# Altium schematic symbol library diod_triod.SchLib: 70 symbols
Pins are listed as number, name and electrical type; pins without a type are passive.

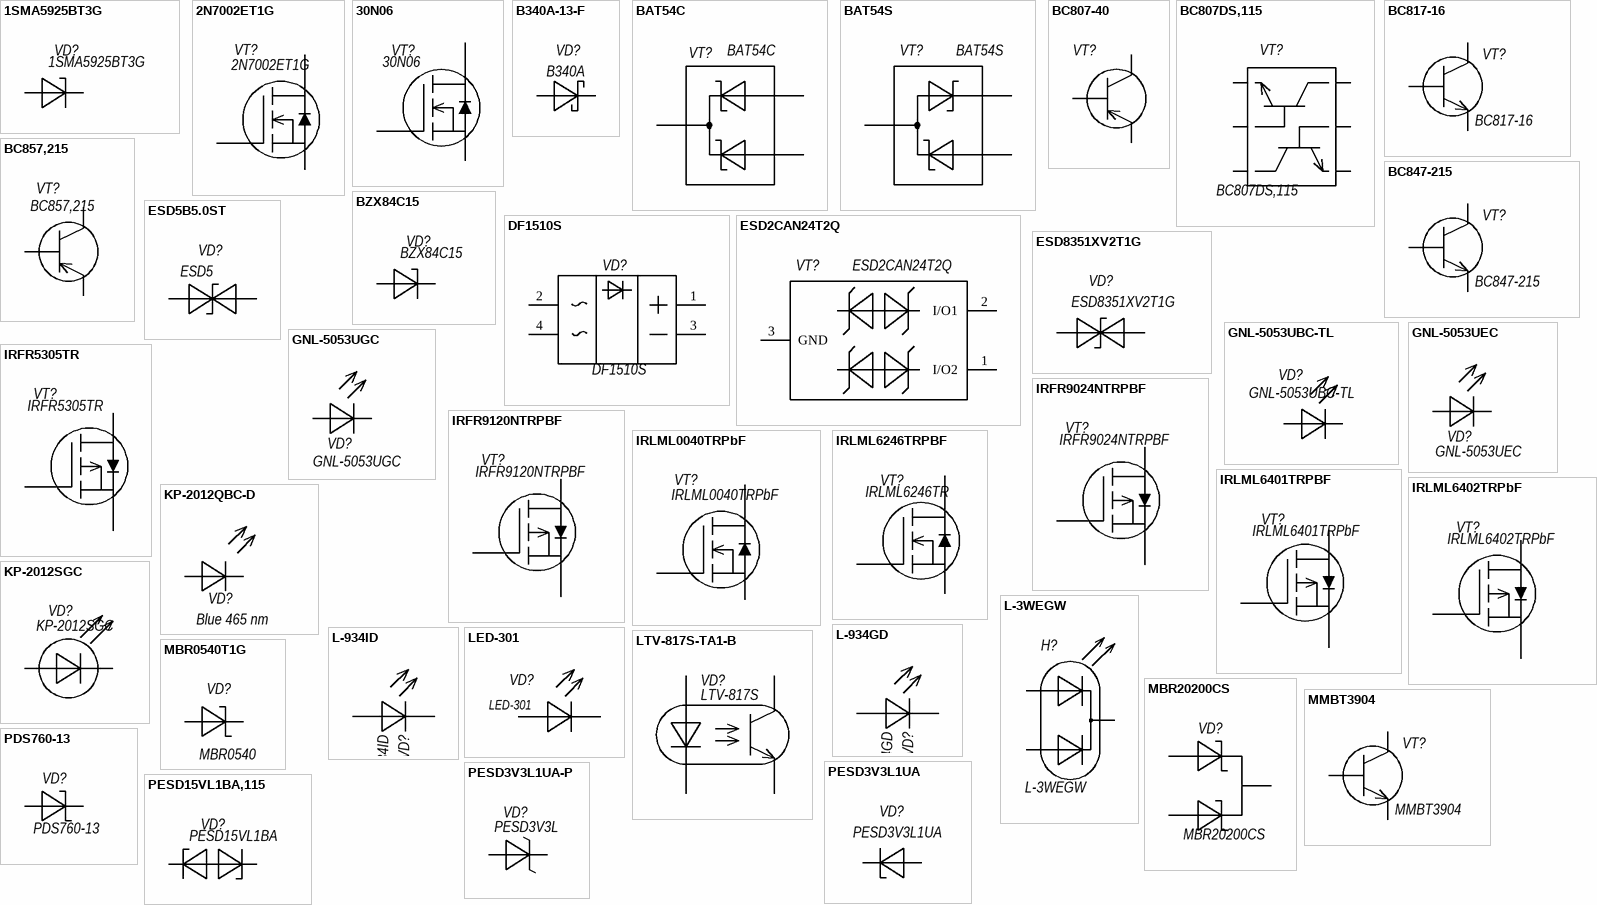
[diagram p0: symbols 1SMA5925BT3G to PESD15VL1BA,115]

## 1SMA5925BT3G
designator VD?
Zener Voltage Regulators 1SMA5925BT3G, 1.5W, 10V, [SMA]; Manufacturer: ON Semiconductor; BOM1: SMA 1SMA5925BT3G; ValueBOM: 1SMA5925BT3G   ON Semiconductor; Part Number: 1SMA5925BT3G; Package: SMA; Value: 1SMA5925BT3G; BOM2: SMA 1SMA5925BT3G
footprint DO214AC SMA (Molded Diode, 2-Leads, Body 4.30x2.60mm, IPC Medium Density)
pins: 1 А "Анод", 2 К "Катод"

## 2N7002ET1G
designator VT?
2N7002ET1G MOSFET N-CH 60V 0,3A SOT-23; Manufacturer: Hottech; BOM1: SOT-23 2N7002ET1G; ValueBOM: 2N7002ET1G   Hottech; Part Number: 2N7002ET1G; Package: SOT-23; BOM2: SOT-23 2N7002ET1G; Value: 2N7002ET1G
footprint SOT23-3L (SOT23, 3-Leads, Body 2.9x1.3mm, Pitch 0.95mm, Lead Span 2.5mm, IPC High Density)
footprint SOT23-3N (SOT23, 3-Leads, Body 2.9x1.3mm, Pitch 0.95mm, Lead Span 2.5mm, IPC Medium Density)
footprint SOT23-3M (SOT23, 3-Leads, Body 2.9x1.3mm, Pitch 0.95mm, Lead Span 2.5mm, IPC Low Density)
pins: 1 G, 2 D, 3 S

## 30N06
designator VT?
60V, 30A N-Channel Enhancement ModePowerMOSFET; Manufacturer: UMW; BOM1: DPAK (TO-252) 30N06; ValueBOM: 30N06   UMW; Part Number: 30N06; Package: DPAK (TO-252); BOM2: DPAK (TO-252) 30N06; Value: 30N06
footprint TO-252-3_TRIOD
pins: 1 G, 2 D, 3 S

## B340A-13-F
designator VD?, comment B340A
SMA-SCH-3A-40V; Part Number: B340A-13-F; Manufacturer: Diodes Incorparated; Reverse Voltage: 40V; Forward Current: 3000mA; Value: B340A; Package: SMA; Temperature Range: -55…+150°C
footprint STD_SMA
pins: A, C

## BAT54C
designator VT?
BAT54C SOT-23 Schottky barrier diodes 0.2A, 30V; Manufacturer: UMW; BOM1: SOT-23 BAT54C; ValueBOM: BAT54C   UMW; Part Number: BAT54C; Package: SOT-23; BOM2: SOT-23 BAT54C; Value: BAT54C
footprint SOT23-3L (SOT23, 3-Leads, Body 2.9x1.3mm, Pitch 0.95mm, Lead Span 2.5mm, IPC High Density)
footprint SOT23-3N (SOT23, 3-Leads, Body 2.9x1.3mm, Pitch 0.95mm, Lead Span 2.5mm, IPC Medium Density)
footprint SOT23-3M (SOT23, 3-Leads, Body 2.9x1.3mm, Pitch 0.95mm, Lead Span 2.5mm, IPC Low Density)
pins: 1, 2, 3

## BAT54S
designator VT?
BAT54S SOT-23 Schottky barrier diodes 0.2A, 30V; Manufacturer: UMW; BOM1: SOT-23 BAT54S; ValueBOM: BAT54S   UMW; Part Number: BAT54S; Package: SOT-23; BOM2: SOT-23 BAT54S; Value: BAT54S
footprint SOT23-3L (SOT23, 3-Leads, Body 2.9x1.3mm, Pitch 0.95mm, Lead Span 2.5mm, IPC High Density)
footprint SOT23-3N (SOT23, 3-Leads, Body 2.9x1.3mm, Pitch 0.95mm, Lead Span 2.5mm, IPC Medium Density)
footprint SOT23-3M (SOT23, 3-Leads, Body 2.9x1.3mm, Pitch 0.95mm, Lead Span 2.5mm, IPC Low Density)
pins: 1, 2, 3

## BC807-40
designator VT?  (value not drawn)
45 V, 500 mA PNP general-purpose transistors; Vendor Code: *
footprint SOT23-3L (SOT23, 3-Leads, Body 2.9x1.3mm, Pitch 0.95mm, Lead Span 2.5mm, IPC High Density)
footprint SOT23-3M (SOT23, 3-Leads, Body 2.9x1.3mm, Pitch 0.95mm, Lead Span 2.5mm, IPC Low Density)
footprint SOT23-3N (SOT23, 3-Leads, Body 2.9x1.3mm, Pitch 0.95mm, Lead Span 2.5mm, IPC Medium Density)
pins: 1 B "Анод излучающего диода", 2 E "Эмиттер транзистора (n-p-n)", 3 К "Коллектор транзистора"
1 alternate drawing of the same symbol

## BC807DS,115
designator VT?
PNP/PNP general purpose double transistors; Manufacturer: Hottech; BOM1: 6TSOP BC817-16; ValueBOM: BC807DS,115   Hottech; Part Number: BC807DS,115; Package: 6TSOP; BOM2: 6TSOP BC817-16; Value: BC807DS,115
footprint TSOP6(SOT457)
pins: 1 E1 "Эмиттер транзистора (n-p-n)", 2 B1 "Анод излучающего диода", 3 C2 "Анод излучающего диода", 4 E2 "Эмиттер транзистора (n-p-n)", 5 B2 "Анод излучающего диода", 6 C1 "Анод излучающего диода"

## BC817-16
designator VT?
NPN; U=45 V; I=0,5 A; SOT-23; -55С..+150С; Manufacturer: Hottech; BOM1: SOT-23 BC817-16; ValueBOM: BC817-16   Hottech; Part Number: BC817-16; Package: SOT-23; BOM2: SOT-23 BC817-16; Value: BC817-16
footprint SOT23-3L (SOT23, 3-Leads, Body 2.9x1.3mm, Pitch 0.95mm, Lead Span 2.5mm, IPC High Density)
footprint SOT23-3N (SOT23, 3-Leads, Body 2.9x1.3mm, Pitch 0.95mm, Lead Span 2.5mm, IPC Medium Density)
footprint SOT23-3M (SOT23, 3-Leads, Body 2.9x1.3mm, Pitch 0.95mm, Lead Span 2.5mm, IPC Low Density)
pins: 1 B "Анод излучающего диода", 2 E "Эмиттер транзистора (n-p-n)", 3 К "Коллектор транзистора"

## BC847-215
designator VT?
BC847-215 NPN; U=45 V; I=0,1 A; SOT-23; -55С..+150С; Manufacturer: Nexperia; BOM1: SOT-23 BC847-215; ValueBOM: BC847-215   Nexperia; Part Number: BC847-215; Package: SOT-23; BOM2: SOT-23 BC847-215; Value: BC847-215
footprint SOT23-3L (SOT23, 3-Leads, Body 2.9x1.3mm, Pitch 0.95mm, Lead Span 2.5mm, IPC High Density)
footprint SOT23-3N (SOT23, 3-Leads, Body 2.9x1.3mm, Pitch 0.95mm, Lead Span 2.5mm, IPC Medium Density)
footprint SOT23-3M (SOT23, 3-Leads, Body 2.9x1.3mm, Pitch 0.95mm, Lead Span 2.5mm, IPC Low Density)
pins: 1 B "Анод излучающего диода", 2 E "Эмиттер транзистора (n-p-n)", 3 К "Коллектор транзистора"

## BC857,215
designator VT?
BC857,215 SOT-23, PNP 45V 0.1A 0.25W; Manufacturer: NXP; BOM1: SOT-23 BC857,215; ValueBOM: BC857,215   NXP; Part Number: BC857,215; Package: SOT-23; BOM2: SOT-23 BC857,215; Value: BC857,215
footprint SOT23-3L (SOT23, 3-Leads, Body 2.9x1.3mm, Pitch 0.95mm, Lead Span 2.5mm, IPC High Density)
footprint SOT23-3N (SOT23, 3-Leads, Body 2.9x1.3mm, Pitch 0.95mm, Lead Span 2.5mm, IPC Medium Density)
footprint SOT23-3M (SOT23, 3-Leads, Body 2.9x1.3mm, Pitch 0.95mm, Lead Span 2.5mm, IPC Low Density)
pins: 1 B "Анод излучающего диода", 2 E "Эмиттер транзистора (n-p-n)", 3 К "Коллектор транзистора"

## BZX84C15
designator VD?
Zener Voltage Regulators BZX84C15, 0.35W, 15V, ±5 [SOT-23-3.]; Manufacturer: Hottech Co. Ltd; BOM1: SOT-23 BZX84C15; ValueBOM: BZX84C15   Hottech Co. Ltd; Part Number: BZX84C15; Package: SOT-23; Value: BZX84C15; BOM2: SOT-23 BZX84C15
footprint SOT23-3L (SOT23, 3-Leads, Body 2.9x1.3mm, Pitch 0.95mm, Lead Span 2.5mm, IPC High Density)
footprint SOT23-3M (SOT23, 3-Leads, Body 2.9x1.3mm, Pitch 0.95mm, Lead Span 2.5mm, IPC Low Density)
footprint SOT23-3N (SOT23, 3-Leads, Body 2.9x1.3mm, Pitch 0.95mm, Lead Span 2.5mm, IPC Medium Density)
pins: 1 А "Анод", 3 К "Катод"

## DF1510S
designator VD?
Диодный мост DF1510S ; U=1000 В; I=1 А; DF-S; -60С..+150С; Manufacturer: Diodes Incorporated; ValueBOM: DF1510S   Diodes Incorporated; Part Number: DF1510S; Package: DF-S; BOM1: DF1510S; BOM2: DF1510S; Value: DF1510S
footprint DB-1S(DF-S)
pins: 1, 2, 3, 4

## ESD2CAN24T2Q
designator VT?
24-V, 2-Channel ESD Protection Diode; Manufacturer: Yangjie; BOM1: SOT-23 ESD2CAN24T2Q; ValueBOM: ESD2CAN24T2Q   Yangjie; Part Number: ESD2CAN24T2Q; Package: SOT-23; BOM2: SOT-23 ESD2CAN24T2Q; Value: ESD2CAN24T2Q
footprint SOT23-3L (SOT23, 3-Leads, Body 2.9x1.3mm, Pitch 0.95mm, Lead Span 2.5mm, IPC High Density)
footprint SOT23-3N (SOT23, 3-Leads, Body 2.9x1.3mm, Pitch 0.95mm, Lead Span 2.5mm, IPC Medium Density)
footprint SOT23-3M (SOT23, 3-Leads, Body 2.9x1.3mm, Pitch 0.95mm, Lead Span 2.5mm, IPC Low Density)
pins: 1 I/O2 "Выход", 2 I/O1 "Вход инверсный", 3 GND

## ESD5B5.0ST
designator VD?, comment ESD5
ESD2-SOD523-5.0V; Part Number: ESD5B5.0ST; Manufacturer: ONS; Working Voltage: 5.0V; Breakdown Voltage: 5.8; Polarity: Bidirectional; Value: ESD5; Package: SOD-523; Temperature Range: -55…+150°C; Capacitance: -
footprint STD_SOD523
pins: A, C

## ESD8351XV2T1G
designator VD?
ESD8351XV2T1G-SOD523-3.3V; Manufacturer: ONS; Working Voltage: 3.3V; Breakdown Voltage: 5.5; Polarity: Bidirectional; Part Number: ESD8351XV2T1G; Value: ESD8351XV2T1G; Package: SOD-523; Temperature Range: -55…+125°C; Capacitance: -
footprint STD_SOD523
pins: A, C

## GNL-5053UBC-TL
designator VD?
GNL-5053UBC-TL   ( 5mm ROUND TYPE) Ultra Brightness BLUE; Manufacturer: G-nor; Reverse Voltage: 5V; Forward Current: 30 mA; Part Number: GNL-5053UBC-TL; Value: GNL-5053UBC-TL; Package: 5 mm; Temperature Range: -40…+85°C
footprint LED 5MM HOR BLUE (LED Diode, 2-Leads, Body 5 mm)
footprint LED 5mm BLUE SMALL
pins: 1, 2

## GNL-5053UEC
designator VD?
GNL-5053UEC   ( 5mm ROUND TYPE) Ultra Brightness RED; Manufacturer: G-nor; Reverse Voltage: 5V; Forward Current: 30 mA; Part Number: GNL-5053UEC; Value: GNL-5053UEC; Package: 5 mm; Temperature Range: -40…+85°C
footprint LED 5mm RED
footprint LED 5MM HOR RED (LED Diode, 2-Leads, Body 5 mm)
pins: 1, 2

## GNL-5053UGC
designator VD?
GNL-5053UGS   ( 5mm ROUND TYPE) Ultra Brightness GREEN; Manufacturer: G-nor; Reverse Voltage: 5V; Forward Current: 30 mA; Part Number: GNL-5053UGC; Value: GNL-5053UGC; Package: 5 mm; Temperature Range: -40…+85°C
footprint LED 5mm GREEN
footprint LED 5MM HOR GREEN (LED Diode, 2-Leads, Body 5 mm)
footprint LED 5mm GREEN SMALL
pins: 1, 2

## IRFR5305TR
designator VT?
IRFR5305TR MOSFET P-CH 60V 30A 3-Pin(2+Tab) DPAK T/R; Manufacturer: UMW; BOM1: DPAK (TO-252) IRFR5305TR; ValueBOM: IRFR5305TR   UMW; Part Number: IRFR5305TR; Package: DPAK (TO-252); BOM2: DPAK (TO-252) IRFR5305TR; Value: IRFR5305TR
footprint TO-252-3_TRIOD
pins: 1 G, 2 D, 3 S

## IRFR9024NTRPBF
designator VT?
IRFR9024NTRPBF MOSFET P-CH 55V 11A 3-Pin(2+Tab) DPAK T/R; Manufacturer: Infineon Technologies; BOM1: DPAK (TO-252) IRFR9024NTRPBF; ValueBOM: IRFR9024NTRPBF   Infineon Technologies; Part Number: IRFR9024NTRPBF; Package: DPAK (TO-252); BOM2: DPAK (TO-252) IRFR9024NTRPBF; Value: IRFR9024NTRPBF
footprint TO-252-3_TRIOD
pins: 1 G, 2 D, 3 S

## IRFR9120NTRPBF
designator VT?
IRFR9120NTRPBF MOSFET P-CH 100V 6.6A 3-Pin(2+Tab) DPAK T/R; Manufacturer: Infineon Technologies; BOM1: DPAK (TO-252) IRFR9120NTRPBF; ValueBOM: IRFR9120NTRPBF   Infineon Technologies; Part Number: IRFR9120NTRPBF; Package: DPAK (TO-252); BOM2: DPAK (TO-252) IRFR9120NTRPBF; Value: IRFR9120NTRPBF
footprint TO-252-3_TRIOD
pins: 1 G, 2 D, 3 S

## IRLML0040TRPbF
designator VT?
IRLML0040TRPbF MOSFET N-CH 40V 3,6A SOT-23; Manufacturer: Hottech; BOM1: SOT-23 IRLML0040TRPbF; ValueBOM: IRLML0040TRPbF   Hottech; Part Number: IRLML0040TRPbF; Package: SOT-23; BOM2: SOT-23 IRLML0040TRPbF; Value: IRLML0040TRPbF
footprint SOT23-3L (SOT23, 3-Leads, Body 2.9x1.3mm, Pitch 0.95mm, Lead Span 2.5mm, IPC High Density)
footprint SOT23-3N (SOT23, 3-Leads, Body 2.9x1.3mm, Pitch 0.95mm, Lead Span 2.5mm, IPC Medium Density)
footprint SOT23-3M (SOT23, 3-Leads, Body 2.9x1.3mm, Pitch 0.95mm, Lead Span 2.5mm, IPC Low Density)
pins: 1 G, 2 D, 3 S

## IRLML6246TRPBF
designator VT?, comment IRLML6246TR
Транзистор MOSFET N-channel; U=20 В; R=0,066 Ом; I=4,1 А; SOT-23; -55С..+150С; Part Number: IRLML6246TRPBF; Manufacturer: Infineon Technologies; BOM1: SOT-23 IRLML6246TRPBF; ValueBOM: IRLML6246TRPBF   Infineon Technologies; Package: SOT-23; BOM2: SOT-23 IRLML6246TRPBF; Value: IRLML6246TR
footprint SOT23-3L (SOT23, 3-Leads, Body 2.9x1.3mm, Pitch 0.95mm, Lead Span 2.5mm, IPC High Density)
footprint SOT23-3M (SOT23, 3-Leads, Body 2.9x1.3mm, Pitch 0.95mm, Lead Span 2.5mm, IPC Low Density)
footprint SOT23-3N (SOT23, 3-Leads, Body 2.9x1.3mm, Pitch 0.95mm, Lead Span 2.5mm, IPC Medium Density)
pins: 1 G, 2 S, 3 D

## IRLML6401TRPBF
designator VT?, comment IRLML6401TRPbF
IRLML6401TRPbF MOSFET P-CH 12V 3.4A SOT-23, 1.3W; Manufacturer: Infineon; BOM1: SOT-23 IRLML6401TRPbF; ValueBOM: IRLML6401TRPbF   Infineon; Part Number: IRLML6401TRPbF; Package: SOT-23; BOM2: SOT-23 IRLML6401TRPbF; Value: IRLML6401TRPbF
footprint SOT23-3L (SOT23, 3-Leads, Body 2.9x1.3mm, Pitch 0.95mm, Lead Span 2.5mm, IPC High Density)
footprint SOT23-3N (SOT23, 3-Leads, Body 2.9x1.3mm, Pitch 0.95mm, Lead Span 2.5mm, IPC Medium Density)
footprint SOT23-3M (SOT23, 3-Leads, Body 2.9x1.3mm, Pitch 0.95mm, Lead Span 2.5mm, IPC Low Density)
pins: 1 G, 2 S, 3 D

## IRLML6402TRPbF
designator VT?
IRLML6402TRPbF MOSFET P-CH 20V 3.7A SOT-23, 1.3W; Manufacturer: Infineon; BOM1: SOT-23 IRLML6402TRPbF; ValueBOM: IRLML6402TRPbF   Infineon; Part Number: IRLML6402TRPbF; Package: SOT-23; BOM2: SOT-23 IRLML6402TRPbF; Value: IRLML6402TRPbF
footprint SOT23-3L (SOT23, 3-Leads, Body 2.9x1.3mm, Pitch 0.95mm, Lead Span 2.5mm, IPC High Density)
footprint SOT23-3N (SOT23, 3-Leads, Body 2.9x1.3mm, Pitch 0.95mm, Lead Span 2.5mm, IPC Medium Density)
footprint SOT23-3M (SOT23, 3-Leads, Body 2.9x1.3mm, Pitch 0.95mm, Lead Span 2.5mm, IPC Low Density)
pins: 1 G, 2 S, 3 D

## KP-2012QBC-D
designator VD?, comment Blue 465 nm
SMD, blue 465 nm, water clear, 40 - 100 mcd, 20 mA, 120°; Part Number: KP-2012QBC-D; Manufacturer: Kingbright Electronic Co, Ltd; Voltage: 3.3V; Current: 20 mA; Value: Blue 465 nm; Package: 0805; Temperature Range: -50…+125 °C
footprint LEDC_0805_2012N_Blue (Chip LED Blue, Body 2x1.25x1.1mm, IPC Medium Density)
pins: 1 А "Анод", 2 К "Катод"

## KP-2012SGC
designator VD?
LED KP-2012SGC SMD 0805, green 568 nm, water clear, 4-15 mcd,  20 mA, 120°; Manufacturer: Kingbright Electronic Co, Ltd; BOM1: 0805 KP-2012SGC; ValueBOM: KP-2012SGC   Kingbright Electronic Co, Ltd; Part Number: KP-2012SGC; Package: 0805; Value: KP-2012SGC; BOM2: 0805 KP-2012SGC
footprint LEDC_0805_2012N_Green (Chip LED Green, Body 2x1.25x1.1mm, IPC Medium Density)
pins: 1, 2

## L-3WEGW
designator H?
3mm round through-hole led/red 625nm 12-40mcd/green 568nm 12-35mcd/white diffused/60°; Manufacturer: Kingbright Electronic Co, Ltd; BOM1: 3mm L-3WEGW; ValueBOM: L-3WEGW   Kingbright Electronic Co, Ltd; Part Number: L-3WEGW; Package: 3mm; Value: L-3WEGW; BOM2: 3mm L-3WEGW
footprint LED 3MM RED GREEN (3mm Red / Green Common Cathode LED)
pins: 1, 2, 3

## L-934GD
designator VD?
L-934GD 3mm round led green 568nm 8-20mcd 60°; Manufacturer: Kingbright; Reverse Voltage: 5V; Forward Current: 5 mA; Part Number: L-934GD; Value: L-934GD; Package: 3 mm; Temperature Range: -40…+85°C
footprint LED 3mm GREEN
footprint LED 3mm GREEN h=8 mm
pins: 1, 2

## L-934ID
designator VD?
L-934ID 3mm round led red 625nm 8-25mcd 60°; Manufacturer: Kingbright; Reverse Voltage: 5V; Forward Current: 5 mA; Part Number: L-934ID; Value: L-934ID; Package: 3 mm; Temperature Range: -40…+85°C
footprint LED 3mm RED
footprint LED 3mm RED h=8 mm
pins: 1, 2

## LED-301
designator VD?
Угловой держатель светодиодов на плату; Manufacturer: TECH PUBLIC; ValueBOM: LED-301   TECH PUBLIC; Part Number: LED-301; Value: LED-301; Package: LED-301; BOM1: LED-301; BOM2: LED-301
footprint LED-301
pins: 1, 2

## LTV-817S-TA1-B
designator VD?, comment LTV-817S
Photocoupler LTV-8x7 Series Current transfer ratio ( CTR : MIN. 50% at IF = 5mA, VCE = 5V ) High input-output isolation voltage ( Viso = 5,000Vrms ); Part Number: LTV-817S-TA1-B; Manufacturer: SLKORMICRO Elec.; BOM1: SMD-4 LTV-817S-TA1-B; ValueBOM: LTV-817S-TA1-B   SLKORMICRO Elec.; Package: SMD-4; BOM2: SMD-4 LTV-817S-TA1-B; Value: LTV-817S
footprint SOP254P960X420-4N
pins: 1 CА "Анод излучающего диода", 2 CК "Катод излучающего диода", 3 Э "Эмиттер транзистора (n-p-n)", 4 К "Коллектор транзистора"

## MBR0540T1G
designator VD?, comment MBR0540
SOD123-SCH-0.5A-40V; Part Number: MBR0540T1G; Manufacturer: ON Semiconductor; Value: MBR0540; Package: SOD-123; BOM2: MBR0540T1G; BOM1: MBR0540T1G
footprint SOD123
pins: 1, 2

## MBR20200CS
designator VD?
MBR20200CS, High voltage power Schottky rectifier, 200 V, 20 А; Manufacturer: YFW; BOM1: DPAK MBR20200CS; ValueBOM: MBR20200CS   YFW; Part Number: MBR20200CS; Package: DPAK; BOM2: DPAK MBR20200CS; Value: MBR20200CS
footprint TO-252-3_TRIOD
pins: 1, 2, 3

## MMBT3904
designator VT?
MMBT3904 NPN U=40 V I=0,2 A SOT-23; Manufacturer: Diotec Semiconductor; BOM1: SOT-23 MMBT3904; ValueBOM: MMBT3904   Diotec Semiconductor; Part Number: MMBT3904; Package: SOT-23; BOM2: SOT-23 MMBT3904; Value: MMBT3904
footprint SOT23-3L (SOT23, 3-Leads, Body 2.9x1.3mm, Pitch 0.95mm, Lead Span 2.5mm, IPC High Density)
footprint SOT23-3N (SOT23, 3-Leads, Body 2.9x1.3mm, Pitch 0.95mm, Lead Span 2.5mm, IPC Medium Density)
footprint SOT23-3M (SOT23, 3-Leads, Body 2.9x1.3mm, Pitch 0.95mm, Lead Span 2.5mm, IPC Low Density)
pins: 1 B "Анод излучающего диода", 2 E "Эмиттер транзистора (n-p-n)", 3 К "Коллектор транзистора"

## PDS760-13
designator VD?
PDS760-13 60V 7A, Schottky Rectifier & Schottky Diode; Manufacturer: Diodes; BOM1: PowerDI PDS760-13; ValueBOM: PDS760-13   Diodes; Part Number: PDS760-13; Package: PowerDI; BOM2: PowerDI PDS760-13; Value: PDS760-13
footprint POWERDI5
pins: 1, 2, 3

## PESD3V3L1UA
designator VD?
PESD3V3L1UA, Low capacitance unidirectional ESD protection up to 30 kV; Manufacturer: NXP Semiconductors; Reverse Voltage: 3.3V; Forward Current: 4500mA; Part Number: PESD3V3L1UA; Value: PESD3V3L1UA; Package: SOD323; Temperature Range: -55…+150°C
footprint SOD323
pins: 1, 2

## PESD3V3L1UA-P
designator VD?, comment PESD3V3L
PESD3V3L1UA-P, Protective diode, 3V3, 20A, 300W, unidirectional, SOD323; Manufacturer: TECH PUBLIC; BOM1: SOD-323 PESD3V3L1UA-P; ValueBOM: PESD3V3L1UA-P   TECH PUBLIC; Part Number: PESD3V3L1UA-P; Package: SOD-323; Value: PESD3V3L; BOM2: SOD-323 PESD3V3L1UA-P
footprint SOD323
pins: 1 А "Анод", 2 К "Катод"

## PESD15VL1BA,115
designator VD?, comment PESD15VL1BA
PESDxL1BA series Low capacitance bidirectional ESD protection diodes in SOD323; Part Number: PESD15VL1BA,115; Manufacturer: Nexperia; BOM1: SOD323 PESD15VL1BA,115; ValueBOM: PESD15VL1BA,115   Nexperia; Package: SOD323; BOM2: SOD323 PESD15VL1BA,115; Value: PESD15VL1BA
footprint SOD323
pins: 1, 2

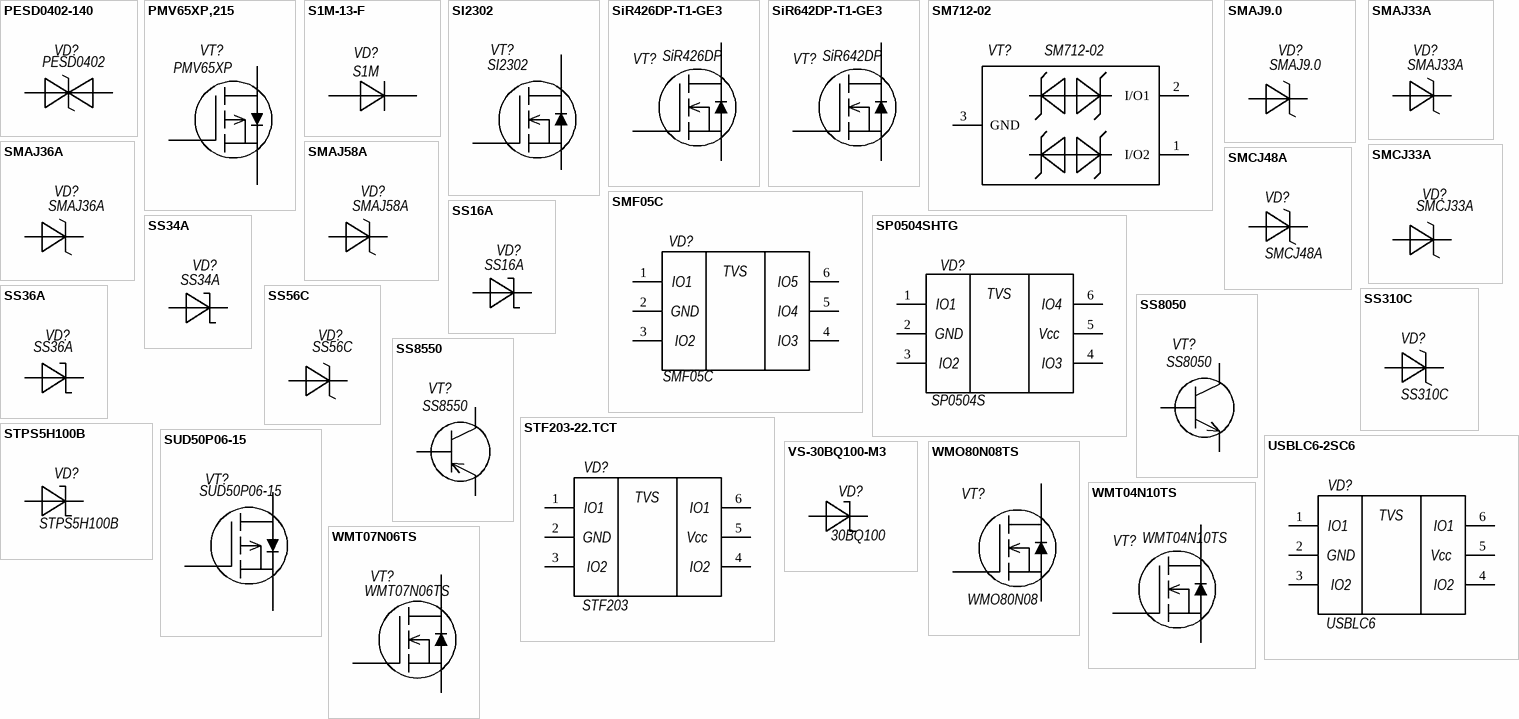
[diagram p1: symbols PESD0402-140 to WMT07N06TS]

## PESD0402-140
designator VD?, comment PESD0402
TVS Diode (Bi-directional); Part Number: PESD0402-140; Manufacturer: Littelfuse; BOM1: SMD 0402 PESD0402-140; ValueBOM: PESD0402-140   Littelfuse; Package: SMD 0402; Value: PESD0402; BOM2: SMD 0402 PESD0402-140
footprint PESD_0402_1005N (Chip Tvs Diode Surface Mount,  Body 1.1x0.5mm, IPC Medium Density)
footprint PESD_0402_1005M (Chip Tvs Diode Surface Mount, Body 1.1x0.5mm, IPC Low Density)
footprint PESD_0402_1005L (Chip Tvs Diode Surface Mount, Body 1.1x0.5mm, IPC High Density)
pins: 1 А "Анод", 2 К "Катод"

## PMV65XP,215
designator VT?, comment PMV65XP
PMV65XP,215 MOSFET P-CH 20V -4.3A SOT-23, 1.3W; Manufacturer: Nexperia; BOM1: SOT-23 PMV65XP,215; ValueBOM: PMV65XP,215   Nexperia; Part Number: PMV65XP,215; Package: SOT-23; BOM2: SOT-23 PMV65XP,215; Value: PMV65XP
footprint SOT23-3L (SOT23, 3-Leads, Body 2.9x1.3mm, Pitch 0.95mm, Lead Span 2.5mm, IPC High Density)
footprint SOT23-3N (SOT23, 3-Leads, Body 2.9x1.3mm, Pitch 0.95mm, Lead Span 2.5mm, IPC Medium Density)
footprint SOT23-3M (SOT23, 3-Leads, Body 2.9x1.3mm, Pitch 0.95mm, Lead Span 2.5mm, IPC Low Density)
pins: 1 G, 2 S, 3 D

## S1M-13-F
designator VD?, comment S1M
1.0A Surface Mount Glass Passivated Rectifier; Part Number: S1M-13-F; Manufacturer: Diodes Incorporated; Reverse Voltage: 1000.0V; Value: S1M; Package: DO-214AC (SMA); Temperature Range: -65…+150°C; Forward Current: 1.0A; ComponentLink1URL: http://www.diodes.com/_files/datasheets/ds16003.pdf; ComponentLink1Description: Datasheet (Manufacturer Site)
footprint STD_SMA
pins: A, C

## SI2302
designator VT?
SI2302 MOSFET N-CH 20V 3A SOT-23; Manufacturer: Hottech; BOM1: SOT-23 SI2302; ValueBOM: SI2302   Hottech; Part Number: SI2302; Package: SOT-23; BOM2: SOT-23 SI2302; Value: SI2302
footprint SOT23-3L (SOT23, 3-Leads, Body 2.9x1.3mm, Pitch 0.95mm, Lead Span 2.5mm, IPC High Density)
footprint SOT23-3N (SOT23, 3-Leads, Body 2.9x1.3mm, Pitch 0.95mm, Lead Span 2.5mm, IPC Medium Density)
footprint SOT23-3M (SOT23, 3-Leads, Body 2.9x1.3mm, Pitch 0.95mm, Lead Span 2.5mm, IPC Low Density)
pins: 1 G, 2 D, 3 S

## SiR426DP-T1-GE3
designator VT?, comment SiR426DP
SiR426DP-T1-GE3 N-Channel 40-V (D-S) MOSFET; Manufacturer: Vishay; BOM1: PowerPAK SO-8 SiR426DP-T1-GE3; ValueBOM: SiR426DP-T1-GE3   Vishay; Part Number: SiR426DP-T1-GE3; Package: PowerPAK SO-8; BOM2: PowerPAK SO-8 SiR426DP-T1-GE3; Value: SiR426DP
footprint PowerPAK SO-8
pins: 1 S, 2 S, 3 S, 4 G, 5 D, 6 D, 7 D, 8 D, 9 D

## SiR642DP-T1-GE3
designator VT?, comment SiR642DP
SiR642DP-T1-GE3 N-Channel 40-V (D-S) MOSFET; Manufacturer: Vishay; BOM1: PowerPAK SO-8 SiR642DP-T1-GE3; ValueBOM: SiR642DP-T1-GE3   Vishay; Part Number: SiR642DP-T1-GE3; Package: PowerPAK SO-8; BOM2: PowerPAK SO-8 SiR642DP-T1-GE3; Value: SiR642DP
footprint PowerPAK SO-8
pins: 1 S, 2 S, 3 S, 4 G, 5 D, 6 D, 7 D, 8 D, 9 D

## SM712-02
designator VT?
ESD Protection Diode Array; Manufacturer: Hottech; BOM1: SOT-23 SM712-02; ValueBOM: SM712-02   Hottech; Part Number: SM712-02; Package: SOT-23; BOM2: SOT-23 SM712-02; Value: SM712-02
footprint SOT23-3L (SOT23, 3-Leads, Body 2.9x1.3mm, Pitch 0.95mm, Lead Span 2.5mm, IPC High Density)
footprint SOT23-3N (SOT23, 3-Leads, Body 2.9x1.3mm, Pitch 0.95mm, Lead Span 2.5mm, IPC Medium Density)
footprint SOT23-3M (SOT23, 3-Leads, Body 2.9x1.3mm, Pitch 0.95mm, Lead Span 2.5mm, IPC Low Density)
pins: 1 I/O2 "Выход", 2 I/O1 "Вход инверсный", 3 GND

## SMAJ9.0
designator VD?
SMAJ9.0, Protective diode, 9V, 400W, unidirectional, DO214AC; Manufacturer: hottech electronics co.,ltd; BOM1: SMA (DO214AC) SMAJ36A; ValueBOM: SMAJ9.0   hottech electronics co.,ltd; Part Number: SMAJ9.0; Package: SMA (DO214AC); Value: SMAJ9.0; BOM2: SMA (DO214AC) SMAJ36A
footprint DO214AC SMA (Molded Diode, 2-Leads, Body 4.30x2.60mm, IPC Medium Density)
pins: 1 А "Анод", 2 К "Катод"

## SMAJ33A
designator VD?
SMAJ33A, Protective diode, 33V, 400W, unidirectional, DO214AC; Manufacturer: hottech electronics co.,ltd; BOM1: SMA (DO214AC) SMAJ33A; ValueBOM: SMAJ33A   hottech electronics co.,ltd; Part Number: SMAJ33A; Package: SMA (DO214AC); Value: SMAJ33A; BOM2: SMA (DO214AC) SMAJ33A
footprint DO214AC SMA (Molded Diode, 2-Leads, Body 4.30x2.60mm, IPC Medium Density)
pins: 1 А "Анод", 2 К "Катод"

## SMAJ36A
designator VD?
SMAJ36A, Protective diode, 36V, 400W, unidirectional, DO214AC; Manufacturer: hottech electronics co.,ltd; BOM1: SMA (DO214AC) SMAJ36A; ValueBOM: SMAJ36A   hottech electronics co.,ltd; Part Number: SMAJ36A; Package: SMA (DO214AC); Value: SMAJ36A; BOM2: SMA (DO214AC) SMAJ36A
footprint DO214AC SMA (Molded Diode, 2-Leads, Body 4.30x2.60mm, IPC Medium Density)
pins: 1 А "Анод", 2 К "Катод"

## SMAJ58A
designator VD?
SMAJ58A, Protective diode, 58V, 19A, 400W, unidirectional, DO214AC; Manufacturer: ST Microelectronics; BOM1: SMA (DO214AC) SMAJ58A; ValueBOM: SMAJ58A   ST Microelectronics; Part Number: SMAJ58A; Package: SMA (DO214AC); Value: SMAJ58A; BOM2: SMA (DO214AC) SMAJ58A
footprint DO214AC SMA (Molded Diode, 2-Leads, Body 4.30x2.60mm, IPC Medium Density)
pins: 1 А "Анод", 2 К "Катод"

## SMCJ33A
designator VD?
SMCJ33A, Protective diode, 33V, 1500W, unidirectional, DO214AB; Manufacturer: Vishay; BOM1: SMC (DO214AB) SMCJ33A; ValueBOM: SMCJ33A   Vishay; Part Number: SMCJ33A; Package: SMC (DO214AB); Value: SMCJ33A; BOM2: SMC (DO214AB) SMCJ33A
footprint DO214AB SMC (Molded Diode, 2-Leads, Body 6.85x5.90mm, IPC Medium Density)
pins: 1 А "Анод", 2 К "Катод"

## SMCJ48A
designator VD?
SMCJ48A, Protective diode, 48V, 1500W, unidirectional, DO214AB; Manufacturer: Vishay; BOM1: SMC (DO214AB) SMCJ48A; ValueBOM: SMCJ48A   Vishay; Part Number: SMCJ48A; Package: SMC (DO214AB); Value: SMCJ48A; BOM2: SMC (DO214AB) SMCJ48A
footprint DO214AB SMC (Molded Diode, 2-Leads, Body 6.85x5.90mm, IPC Medium Density)
pins: 1 А "Анод", 2 К "Катод"

## SMF05C
designator VD?
TVS Diode Arrays SMF05C, Low Capacitance 130 pF, ESD Protection rating of ±15kV; Manufacturer: Semtech; BOM1: SOT363/SC70-6 SMF05C; ValueBOM: SMF05C   Semtech; Part Number: SMF05C; Package: SOT363/SC70-6; BOM2: SOT363/SC70-6 SMF05C; Value: SMF05C
footprint SOT363/SC70-6N
footprint SOT363/SC70-6L
pins: 1, 2, 3, 4, 5, 6
text: IO1; TVS; IO5; GND; IO4; IO2; IO3

## SP0504SHTG
designator VD?, comment SP0504S
TVS Diode Arrays SP0504SHTG, Low Capacitance 0.85 pF, ESD Protection rating of ±15kV; Manufacturer: Littelfuse, Inc.; BOM1: SOT363/SC70-6 SP0504SHTG; ValueBOM: SP0504SHTG   Littelfuse, Inc.; Part Number: SP0504SHTG; Package: SOT363/SC70-6; BOM2: SOT363/SC70-6 SP0504SHTG; Value: SP0504S
footprint SOT363/SC70-6N
footprint SOT363/SC70-6L
pins: 1, 2, 3, 4, 5, 6
text: IO1; TVS; IO4; GND; Vcc; IO2; IO3

## SS16A
designator VD?
SS16A, Schottky Barrier Diode 60V 1A 0.7V(If1A) SMA; Manufacturer: Hottech; BOM1: SMA (DO214AC) SS16A; ValueBOM: SS16A   Hottech; Part Number: SS16A; Package: SMA (DO214AC); Value: SS16A; BOM2: SMA (DO214AC) SS16A
footprint DO214AC SMA (Molded Diode, 2-Leads, Body 4.30x2.60mm, IPC Medium Density)
pins: 1 А "Анод", 2 К "Катод"

## SS34A
designator VD?
SS34A, Schottky Barrier Diode 40V 3A 0.55V(If3A) SMA; Manufacturer: Hottech; BOM1: SMA (DO214AC) SS34A; ValueBOM: SS34A   Hottech; Part Number: SS34A; Package: SMA (DO214AC); Value: SS34A; BOM2: SMA (DO214AC) SS34A
footprint DO214AC SMA (Molded Diode, 2-Leads, Body 4.30x2.60mm, IPC Medium Density)
pins: 1 А "Анод", 2 К "Катод"

## SS36A
designator VD?
SS36A, Schottky Barrier Diode 60V 3A 0.7V(If3A) SMA; Manufacturer: Hottech; BOM1: SMA (DO214AC) SS36A; ValueBOM: SS36A   Hottech; Part Number: SS36A; Package: SMA (DO214AC); Value: SS36A; BOM2: SMA (DO214AC) SS36A
footprint DO214AC SMA (Molded Diode, 2-Leads, Body 4.30x2.60mm, IPC Medium Density)
pins: 1 А "Анод", 2 К "Катод"

## SS56C
designator VD?
SS56C, Schottky Barrier Diode 60V 5A 0.67V (If5A) SMC (DO214AB); Manufacturer: UMW; BOM1: SMC (DO214AB) SS56C; ValueBOM: SS56C   UMW; Part Number: SS56C; Package: SMC (DO214AB); Value: SS56C; BOM2: SMC (DO214AB) SS56C
footprint DO214AB SMC (Molded Diode, 2-Leads, Body 6.85x5.90mm, IPC Medium Density)
pins: 1 А "Анод", 2 К "Катод"

## SS310C
designator VD?
SS310C, Schottky Barrier Diode 100V 3A 0.85V (If=3A) SMC (DO214AB); Manufacturer: Hottech; BOM1: SMC (DO214AB) SS310C; ValueBOM: SS310C   Hottech; Part Number: SS310C; Package: SMC (DO214AB); Value: SS310C; BOM2: SMC (DO214AB) SS310C
footprint DO214AB SMC (Molded Diode, 2-Leads, Body 6.85x5.90mm, IPC Medium Density)
pins: 1 А "Анод", 2 К "Катод"

## SS8050
designator VT?
SS8050 SOT-23, NPN 25V 1.5A 0.3W; Manufacturer: Hottech electronics; BOM1: SOT-23 SS8050; ValueBOM: SS8050   Hottech electronics; Part Number: SS8050; Package: SOT-23; BOM2: SOT-23 SS8050; Value: SS8050
footprint SOT23-3L (SOT23, 3-Leads, Body 2.9x1.3mm, Pitch 0.95mm, Lead Span 2.5mm, IPC High Density)
footprint SOT23-3N (SOT23, 3-Leads, Body 2.9x1.3mm, Pitch 0.95mm, Lead Span 2.5mm, IPC Medium Density)
footprint SOT23-3M (SOT23, 3-Leads, Body 2.9x1.3mm, Pitch 0.95mm, Lead Span 2.5mm, IPC Low Density)
pins: 1 B "Анод излучающего диода", 2 E "Эмиттер транзистора (n-p-n)", 3 К "Коллектор транзистора"

## SS8550
designator VT?
SS8550 SOT-23, PNP 25V 1.5A 0.3W; Manufacturer: Hottech electronics; BOM1: SOT-23 SS8550; ValueBOM: SS8550   Hottech electronics; Part Number: SS8550; Package: SOT-23; BOM2: SOT-23 SS8550; Value: SS8550
footprint SOT23-3L (SOT23, 3-Leads, Body 2.9x1.3mm, Pitch 0.95mm, Lead Span 2.5mm, IPC High Density)
footprint SOT23-3N (SOT23, 3-Leads, Body 2.9x1.3mm, Pitch 0.95mm, Lead Span 2.5mm, IPC Medium Density)
footprint SOT23-3M (SOT23, 3-Leads, Body 2.9x1.3mm, Pitch 0.95mm, Lead Span 2.5mm, IPC Low Density)
pins: 1 B "Анод излучающего диода", 2 E "Эмиттер транзистора (n-p-n)", 3 К "Коллектор транзистора"

## STF203-22.TCT
designator VD?, comment STF203
STF203-22.TCT, Сборка защитная TVS-диодов для USB 22Ом; Manufacturer: STMicroelectronics; BOM1: SOT363/SC70-6 STF203-22.TCT; ValueBOM: STF203-22.TCT   STMicroelectronics; Part Number: STF203-22.TCT; Package: SOT363/SC70-6; BOM2: SOT363/SC70-6 STF203-22.TCT; Value: STF203
footprint SOT363/SC70-6N
footprint SOT363/SC70-6L
pins: 1, 2, 3, 4, 5, 6
text: IO1; TVS; GND; Vcc; IO2

## STPS5H100B
designator VD?
STPS5H100B, High voltage power Schottky rectifier; Manufacturer: STMicroelectronics; BOM1: DPAK STPS5H100B; ValueBOM: STPS5H100B   STMicroelectronics; Part Number: STPS5H100B; Package: DPAK; BOM2: DPAK STPS5H100B; Value: STPS5H100B
footprint TO-252-3_DIODES
pins: 1, 2

## SUD50P06-15
designator VT?
SUD50P06-15 MOSFET P-CH 60V 50A 3-Pin(2+Tab) DPAK T/R; Manufacturer: VISHAY; BOM1: DPAK (TO-252) SUD50P06-15; ValueBOM: SUD50P06-15   VISHAY; Part Number: SUD50P06-15; Package: DPAK (TO-252); BOM2: DPAK (TO-252) SUD50P06-15; Value: SUD50P06-15
footprint TO-252-3_TRIOD
pins: 1 G, 2 D, 3 S

## USBLC6-2SC6
designator VD?, comment USBLC6
USBLC6-2SC6, USB Interface Electrostatic Discharge Protection; Manufacturer: STMicroelectronics; BOM1: SOT23-6 USBLC6-2SC6; ValueBOM: USBLC6-2SC6   STMicroelectronics; Part Number: USBLC6-2SC6; Package: SOT23-6; BOM2: SOT23-6 USBLC6-2SC6; Value: USBLC6
footprint SOT23-6L (SOT23, 6-Leads, Body 2.9x1.3mm, Pitch 0.95mm, Lead Span 2.5mm, IPC High Density)
footprint SOT23-6M (SOT23, 6-Leads, Body 2.9x1.3mm, Pitch 0.95mm, Lead Span 2.5mm, IPC Low Density)
footprint SOT23-6N (SOT23, 6-Leads, Body 2.9x1.3mm, Pitch 0.95mm, Lead Span 2.5mm, IPC Medium Density)
pins: 1, 2, 3, 4, 5, 6
text: IO1; TVS; GND; Vcc; IO2

## VS-30BQ100-M3
designator VD?, comment 30BQ100
VS-30BQ100-M3 3A/100V SMD (SC3J); Manufacturer: Vishay; BOM1: DO214AB SMC VS-30BQ100-M3; ValueBOM: VS-30BQ100-M3   Vishay; Part Number: VS-30BQ100-M3; Package: DO214AB SMC; BOM2: DO214AB SMC VS-30BQ100-M3; Value: 30BQ100
footprint DO214AB SMC (Molded Diode, 2-Leads, Body 6.85x5.90mm, IPC Medium Density)
pins: 1, 2

## WMO80N08TS
designator VT?, comment WMO80N08
WMO80N08TS VDS= 80V, ID = 80A N-Channel Enhancement Mode Power MOSFET; Manufacturer: WAYON; BOM1: DPAK (TO-252) WMO80N08TS; ValueBOM: WMO80N08TS   WAYON; Part Number: WMO80N08TS; Package: DPAK (TO-252); BOM2: DPAK (TO-252) WMO80N08TS; Value: WMO80N08
footprint TO-252-3_TRIOD
pins: 1 G, 2 D, 3 S

## WMT04N10TS
designator VT?
WMT04N10TS N-Channel MOSFET VDS= 100V, ID = 3.5A; Manufacturer: WAYON; BOM1: SOT-223-3L WMT04N10TS; ValueBOM: WMT04N10TS   WAYON; Part Number: WMT04N10TS; Package: SOT-223-3L; BOM2: SOT-223-3L WMT04N10TS; Value: WMT04N10TS
footprint STD_SOT-223-4
pins: 1 G, 2 D, 3 S, 4 D

## WMT07N06TS
designator VT?
WMT07N06TS N-Channel MOSFET VDS= 60V, ID = 7A; Manufacturer: WAYON; BOM1: SOT-223-3L WMT07N06TS; ValueBOM: WMT07N06TS   WAYON; Part Number: WMT07N06TS; Package: SOT-223-3L; BOM2: SOT-223-3L WMT07N06TS; Value: WMT07N06TS
footprint STD_SOT-223-4
pins: 1 G, 2 D, 3 S, 4 D